# Altium footprint library analog_ic.pcblib: 28 footprints (part 2 of 2)
Each footprint in its own frame and in the unit in brackets; x right, y up, seen from the top. Pads: shape width x height; smd on the part's side, far side on the other; paste and mask are expansions set on the pad; w line width, h text height; cw(c..) or ccw(c..) is an arc to the next point about the centre after c.
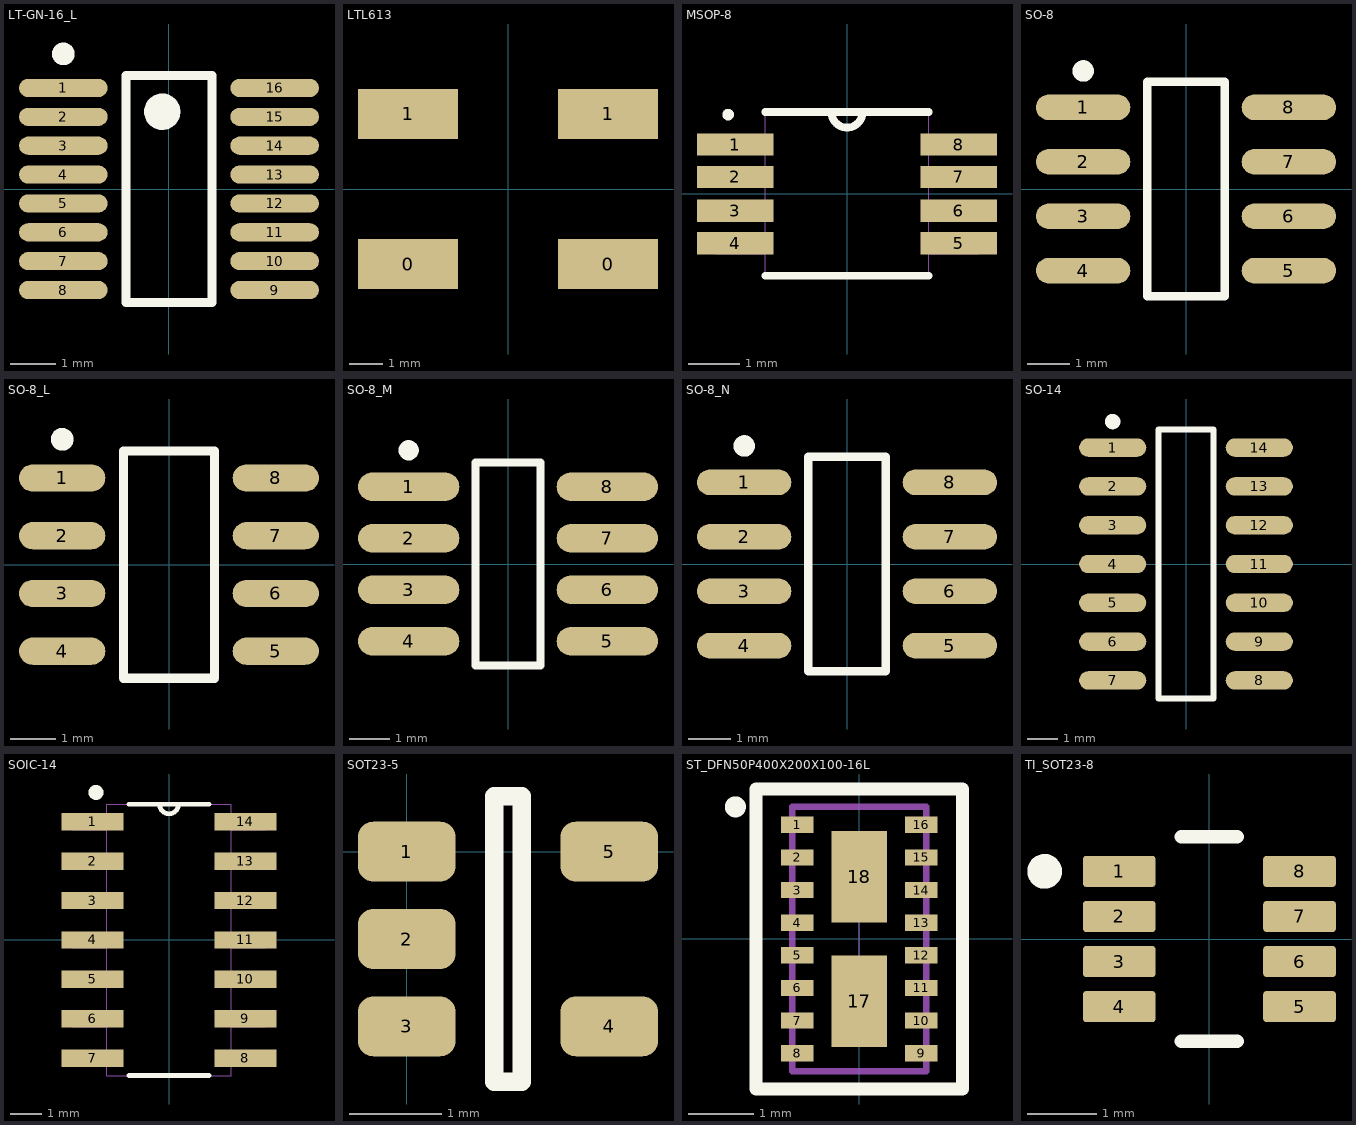
[diagram p1: the footprints below, top view; thin cyan lines are the x and y axes]

## LT-GN-16_L [mm] "SOP, 16-Leads, Body 4.9x3.9mm, Pitch 0.635mm, IPC High Density"
height 1.75
pads (16):
  oval 1.95x0.4 smd: 1(-2.325,2.222) 2(-2.325,1.587) 3(-2.325,0.953) 4(-2.325,0.318) 5(-2.325,-0.318) 6(-2.325,-0.953) 7(-2.325,-1.587) 8(-2.325,-2.222) 9(2.325,-2.222) 10(2.325,-1.587) 11(2.325,-0.953) 12(2.325,-0.318) 13(2.325,0.318) 14(2.325,0.953) 15(2.325,1.587) 16(2.325,2.222)
Top Overlay:
  circle w0.4: c-0.15,1.7 r0.2
  circle w0.25: c-2.325,2.973 r0.125
  lines w0.2: -0.95,-2.5 0.95,-2.5 0.95,2.5 -0.95,2.5 -0.95,-2.5
3D body "User Library-User Library-MAX_QSOP16.step": height 1.74, standoff -0.03, extent -3.01,-2.465 3.01,2.515

## LTL613 [mm]
pads (4):
  rect 3x1.5 smd: 0(-3,-2.25) 0(3,-2.25) 1(-3,2.25) 1(3,2.25)
3D body "LTL613.stp": height 5, standoff 0, extent -4.039,-3 4.039,3

## MSOP-8 [mil]
pads (8):
  rect 59x17 smd: 1(-86,38) 2(-86,13) 3(-86,-13) 4(-86,-38) 5(86,-38) 6(86,-13) 7(86,13) 8(86,38)
Top Overlay:
  circle w5: c-91.54,61.02 r1.97
  lines w6: -63,-63 63,-63 ; -63,63 -12,63 ; 63,63 12,63 ; -12,63 ccw(c0,63) 12,63 ; -12,63 12,63
Plata3D:
  lines w0: -12,63 ccw(c0,63) 12,63 ; -12,63 -63,63 -63,-63 63,-63 63,63 12,63 ; -12,63 12,63 ; -101,-46 -63,-46 -63,-31 -101,-31 -101,-46 ; -101,-20 -63,-20 -63,-5 -101,-5 -101,-20 ; -101,5 -63,5 -63,20 -101,20 -101,5 ; -101,31 -63,31 -63,46 -101,46 -101,31 ; 63,-46 101,-46 101,-31 63,-31 63,-46 ; 63,-20 101,-20 101,-5 63,-5 63,-20 ; 63,5 101,5 101,20 63,20 63,5 ; 63,31 101,31 101,46 63,46 63,31
3D body "AD8221ARMZ.STEP": height 43.31, standoff 0, extent -95.47,-59.06 97.44,59.06

## SO-8 [mm] "SOIC, 8-Leads, Body 4.9x3.9mm, Pitch 1.27mm, IPC Medium Density"
height 1.75
pads (8):
  oval 2.2x0.6 smd: 1(-2.4,1.905) 2(-2.4,0.635) 3(-2.4,-0.635) 4(-2.4,-1.905) 5(2.4,-1.905) 6(2.4,-0.635) 7(2.4,0.635) 8(2.4,1.905)
Top Overlay:
  circle w0.25: c-2.4,2.755 r0.125
  lines w0.2: -0.9,-2.5 -0.9,2.5 0.9,2.5 0.9,-2.5 -0.9,-2.5
3D body "so-8.step": height 1.88, standoff -0.03, extent -3.169,-2.515 3.169,2.489

## SO-8_L [mm] "SOIC, 8-Leads, Body 4.9x3.9mm, Pitch 1.27mm, IPC High Density"
height 1.75
pads (8):
  oval 1.9x0.6 smd: 1(-2.35,1.905) 2(-2.35,0.635) 3(-2.35,-0.635) 4(-2.35,-1.905) 5(2.35,-1.905) 6(2.35,-0.635) 7(2.35,0.635) 8(2.35,1.905)
Top Overlay:
  circle w0.25: c-2.35,2.755 r0.125
  lines w0.2: -1,-2.5 1,-2.5 1,2.5 -1,2.5 -1,-2.5
3D body "so-8.step": height 1.88, standoff -0.03, extent -3.169,-2.515 3.169,2.489

## SO-8_M [mm] "SOIC, 8-Leads, Body 4.9x3.9mm, Pitch 1.27mm, IPC Low Density"
height 1.75
pads (8):
  oval 2.5x0.7 smd: 1(-2.45,1.905) 2(-2.45,0.635) 3(-2.45,-0.635) 4(-2.45,-1.905) 5(2.45,-1.905) 6(2.45,-0.635) 7(2.45,0.635) 8(2.45,1.905)
Top Overlay:
  circle w0.25: c-2.45,2.805 r0.125
  lines w0.2: -0.8,-2.5 -0.8,2.5 0.8,2.5 0.8,-2.5 -0.8,-2.5
3D body "so-8.step": height 1.88, standoff -0.03, extent -3.169,-2.515 3.169,2.489

## SO-8_N [mm] "SOIC, 8-Leads, Body 4.9x3.9mm, Pitch 1.27mm, IPC Medium Density"
height 1.75
pads (8):
  oval 2.2x0.6 smd: 1(-2.4,1.905) 2(-2.4,0.635) 3(-2.4,-0.635) 4(-2.4,-1.905) 5(2.4,-1.905) 6(2.4,-0.635) 7(2.4,0.635) 8(2.4,1.905)
Top Overlay:
  circle w0.25: c-2.4,2.755 r0.125
  lines w0.2: -0.9,-2.5 0.9,-2.5 0.9,2.5 -0.9,2.5 -0.9,-2.5
3D body "so-8.step": height 1.88, standoff -0.03, extent -3.169,-2.515 3.169,2.489

## SO-14 [mm] "14-Pin Small Outline Integrated Circuit 1.27 mm Pitch, IPC Medium Density"
height 1.75
pads (14):
  oval 2.2x0.6 smd: 1(-2.4,3.81) 2(-2.4,2.54) 3(-2.4,1.27) 4(-2.4,0) 5(-2.4,-1.27) 6(-2.4,-2.54) 7(-2.4,-3.81) 8(2.4,-3.81) 9(2.4,-2.54) 10(2.4,-1.27) 11(2.4,0) 12(2.4,1.27) 13(2.4,2.54) 14(2.4,3.81)
Top Overlay:
  circle w0.25: c-2.4,4.66 r0.125
  lines w0.2: -0.9,-4.4 0.9,-4.4 0.9,4.4 -0.9,4.4 -0.9,-4.4
3D body "CircuitWorks-SO-14 (PIC16F684).step": height 1.58, standoff -0.02, extent -2.995,-4.345 2.995,4.345

## SOIC-14 [mil]
pads (14):
  rect 78x22 smd: 1(-97,150) 2(-97,100) 3(-97,50) 4(-97,0) 5(-97,-50) 6(-97,-100) 7(-97,-150) 8(97,-150) 9(97,-100) 10(97,-50) 11(97,0) 12(97,50) 13(97,100) 14(97,150)
Top Overlay:
  circle w10: c-92.52,187.01 r4.4
  lines w6: -51,-172 51,-172 ; -51,172 -12,172 ; 51,172 12,172 ; -12,172 ccw(c0,172) 12,172 ; -12,172 12,172
Plata3D:
  lines w0: -12,172 ccw(c0,172) 12,172 ; -12,172 -79,172 -79,-172 79,-172 79,172 12,172 ; -12,172 12,172 ; -122,-160 -79,-160 -79,-140 -122,-140 -122,-160 ; -122,-110 -79,-110 -79,-90 -122,-90 -122,-110 ; -122,-60 -79,-60 -79,-40 -122,-40 -122,-60 ; -122,-10 -79,-10 -79,10 -122,10 -122,-10 ; -122,40 -79,40 -79,60 -122,60 -122,40 ; -122,90 -79,90 -79,110 -122,110 -122,90 ; -122,140 -79,140 -79,160 -122,160 -122,140 ; 79,-160 122,-160 122,-140 79,-140 79,-160 ; 79,-110 122,-110 122,-90 79,-90 79,-110 ; 79,-60 122,-60 122,-40 79,-40 79,-60 ; 79,-10 122,-10 122,10 79,10 79,-10 ; 79,40 122,40 122,60 79,60 79,40 ; 79,90 122,90 122,110 79,110 79,90 ; 79,140 122,140 122,160 79,160 79,140
3D body "step_temp.STEP": height 68.9, standoff 0, extent -118.11,-170.28 118.11,170.28

## SOT23-5 [mm]
height 3
pads (5):
  rrect50% 1.06x0.65 smd: 1(0,0) 2(0,-0.95) 3(0,-1.9) 4(2.2,-1.9) 5(2.2,0)
Top Overlay:
  lines w0.2: 0.95,-2.5 1.25,-2.5 1.25,0.6 0.95,0.6 0.95,-2.5
3D body "sot235.step": height 1, standoff 0, extent -0.07,-2.41 2.27,0.51

## ST_DFN50P400X200X100-16L [mm] "ST_DFN50P400X200X100-16L"
height 0.8
pads (18):
  rect 0.5x0.25 smd mask+0.06: 1(-0.95,1.75) 2(-0.95,1.25) 3(-0.95,0.75) 4(-0.95,0.25) 5(-0.95,-0.25) 6(-0.95,-0.75) 7(-0.95,-1.25) 8(-0.95,-1.75) 9(0.95,-1.75) 10(0.95,-1.25) 11(0.95,-0.75) 12(0.95,-0.25) 13(0.95,0.25) 14(0.95,0.75) 15(0.95,1.25) 16(0.95,1.75)
  rect 0.85x1.405 smd mask+0.06: 17(0,-0.953) 18(0,0.953)
Top Overlay:
  circle w0.2: c-1.9,2.025 r0.061
  lines w0.2: -1.585,-2.3 -1.585,2.3 1.585,2.3 1.585,-2.3 -1.585,-2.3
Plata3D:
  lines w0.1: -1.025,-2.025 1.025,-2.025 1.025,2.025 -1.025,2.025 -1.025,-2.025
Board3D:
  lines w0: 0,-0.953 0,0 0,0.953
3D body "ST_QFN_16L40x20.STEP": height 0.88, standoff -0.02, extent -1.001,-2 1.001,2

## TI_SOT23-8 [mm]
pads (8):
  rrect22% 1.05x0.45 smd paste+0 mask+0: 1(-1.3,0.975) 2(-1.3,0.325) 3(-1.3,-0.325) 4(-1.3,-0.975) 5(1.3,-0.975) 6(1.3,-0.325) 7(1.3,0.325) 8(1.3,0.975)
Top Overlay:
  circle w0.25: c-2.375,0.975 r0.125
  lines w0.2: -0.4,-1.475 0.4,-1.475 ; -0.4,1.475 0.4,1.475
3D body "IC_Texas_Instruments_TLV9002IDDFR_eec.STEP": height 1.1, standoff 0, extent -1.41,-1.45 1.41,1.45